# EAGLE library part LT1019AIS8-2.5 (library 0_linear-technology)
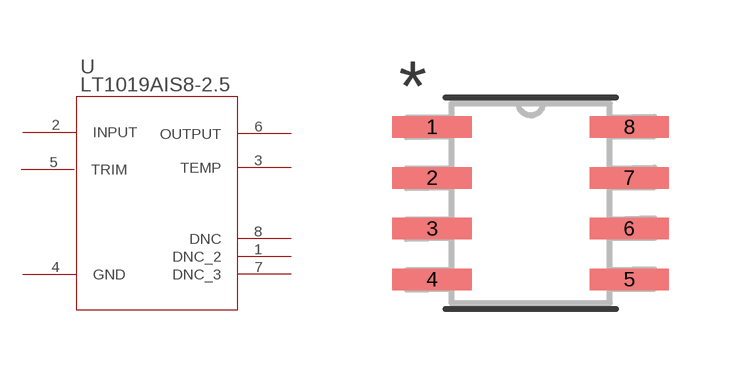
[diagram p0: symbol with the pads of SO-8_S; footprint SO-8_S]

Designator prefix U

## LT1019AIS8-2.5 (MANUFACTURER_PART_NUMBER: lt1019ais82.5; VENDOR: Linear Technology)  [SO-8_S]
1  DNC_2  nc
2  INPUT  in
3  TEMP  pas
4  GND  pwr
5  TRIM  pas
6  OUTPUT  out
7  DNC_3  nc
8  DNC  nc

## Footprint SO-8_S (pad centres in mm)
smd 1.981 x 0.533: 1 -2.464,1.905; 2 -2.464,0.635; 3 -2.464,-0.635; 4 -2.464,-1.905; 5 2.464,-1.905; 6 2.464,-0.635; 7 2.464,0.635; 8 2.464,1.905